# EAGLE library part ICSP (library jason-test)
Microchip ICSP header
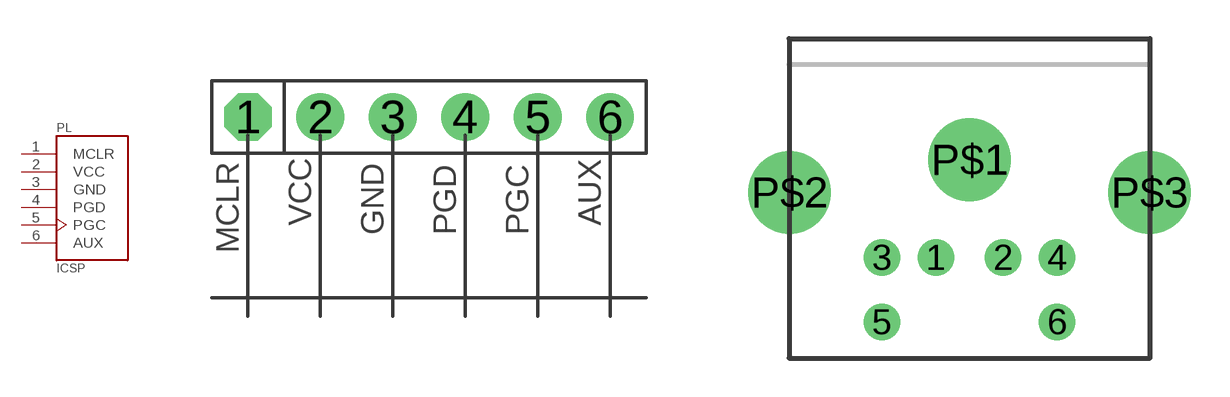
[diagram p22: symbol with the pads of 6X1-ICSP; footprints 6X1-ICSP, MINI-DIN6]

Designator prefix PL

## ICSP  [6X1-ICSP]
1  MCLR  out
2  VCC  pwr
3  GND  pwr
4  PGD
5  PGC  out
6  AUX  out

## ICSPDIN  [MINI-DIN6]
1  PGD
2  GND  pwr
3  PGC  out
4  VCC  pwr
5  AUX  out
6  MCLR  out

## ICSPSMT  [AMP-1241150-6]
Pads as for 6X1-ICSP

## Footprint 6X1-ICSP (pad centres in mm)
drill 1 pad 1.676 octagon: 1 -6.35,0
drill 1 pad 1.676 round: 2 -3.81,0; 3 -1.27,0; 4 1.27,0; 5 3.81,0; 6 6.35,0

## Footprint MINI-DIN6 (pad centres in mm)
drill 0.9 round: 1 -1.3,-8.5; 2 1.3,-8.5; 3 -3.4,-8.5; 4 3.4,-8.5; 5 -3.4,-11; 6 3.4,-11
drill 2.2 round: P$1 0,-4.7; P$2 -6.985,-5.97; P$3 6.985,-5.97

## Footprint AMP-1241150-6 (pad centres in mm)
AMPMODU II 2.54mm SMT unshrouded 6-position
smd 0.9 x 2.9: 1 -6.35,1.27; 2 -3.81,-1.27; 3 -1.27,1.27; 4 1.27,-1.27; 5 3.81,1.27; 6 6.35,-1.27